# Altium footprint library TLV62568DBVR.PcbLib: 1 footprints
Each footprint in its own frame and in the unit in brackets; x right, y up, seen from the top. Pads: shape width x height; smd on the part's side, far side on the other; paste and mask are expansions set on the pad; w line width, h text height; cw(c..) or ccw(c..) is an arc to the next point about the centre after c.
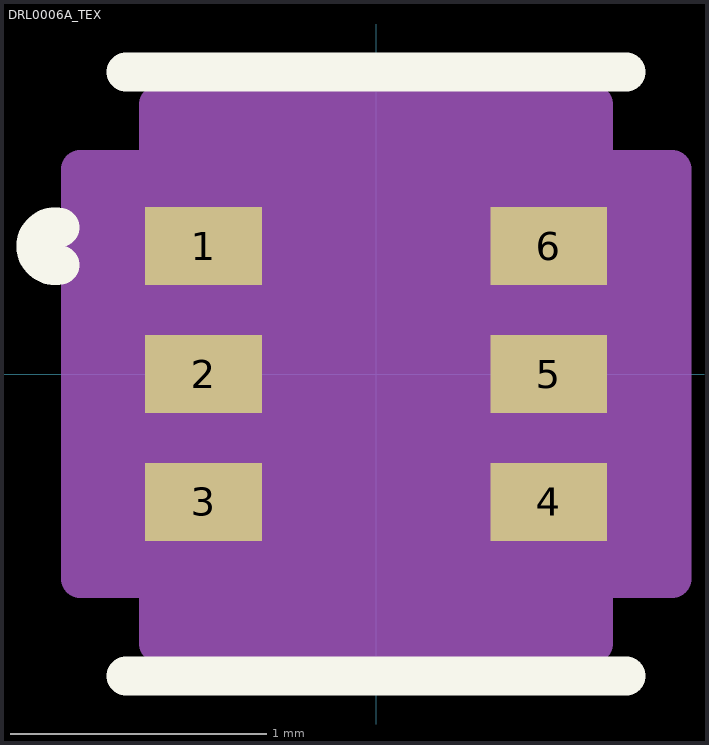
[diagram p0: the footprint, top view; thin cyan lines are the x and y axes]

## DRL0006A_TEX [mil]
pads (6):
  rect 18x12 smd paste+0 mask+0: 1(-26.57,19.68) 2(-26.57,0) 3(-26.57,-19.68) 4(26.57,-19.68) 5(26.57,0) 6(26.57,19.68)
Top Overlay:
  lines w6: -48.67,16.78 cw(c-49.42,19.68) -48.67,22.59 ; -38.5,-46.5 38.5,-46.5 ; -38.5,46.5 38.5,46.5
  text ".Designator" at -137.5,-25 h50
Top Paste:
  region: -17.57,25.68 -35.57,25.68 -35.57,13.69 -17.57,13.69
  region: -17.57,6 -35.57,6 -35.57,-6 -17.57,-6
  region: -17.57,-13.69 -35.57,-13.69 -35.57,-25.68 -17.57,-25.68
  region: 35.57,-13.69 17.57,-13.69 17.57,-25.68 35.57,-25.68
  region: 35.57,6 17.57,6 17.57,-6 35.57,-6
  region: 35.57,25.68 17.57,25.68 17.57,13.69 35.57,13.69
Top Solder:
  region: -17.57,25.68 -35.57,25.68 -35.57,13.69 -17.57,13.69
  region: -17.57,6 -35.57,6 -35.57,-6 -17.57,-6
  region: -17.57,-13.69 -35.57,-13.69 -35.57,-25.68 -17.57,-25.68
  region: 35.57,-13.69 17.57,-13.69 17.57,-25.68 35.57,-25.68
  region: 35.57,6 17.57,6 17.57,-6 35.57,-6
  region: 35.57,25.68 17.57,25.68 17.57,13.69 35.57,13.69
Mechanical 13:
  circle w1: c-17.57,19.68 r3
  lines w1: -12,31.5 ccw(c0,31.5) 12,31.5 ; -23.5,-31.5 23.5,-31.5 23.5,31.5 -23.5,31.5 -23.5,-31.5
  text ".Designator" at -137.5,-25 h50
Mechanical 15:
  region: -33.5,-31.53 -45.57,-31.53 -45.57,31.53 -33.5,31.53 -33.5,41.5 33.5,41.5 33.5,31.53 45.57,31.53 45.57,-31.53 33.5,-31.53 33.5,-41.5 -33.5,-41.5
  lines w6: -45.57,-31.53 -45.57,31.53 -33.5,31.53 -33.5,41.5 33.5,41.5 33.5,31.53 45.57,31.53 45.57,-31.53 33.5,-31.53 33.5,-41.5 -33.5,-41.5 -33.5,-31.53 -45.57,-31.53